# Altium footprint library PCB_power_unit.PcbLib: 18 footprints (part 2 of 2)
Each footprint in its own frame and in the unit in brackets; x right, y up, seen from the top. Pads: shape width x height; smd on the part's side, far side on the other; paste and mask are expansions set on the pad; w line width, h text height; cw(c..) or ccw(c..) is an arc to the next point about the centre after c.
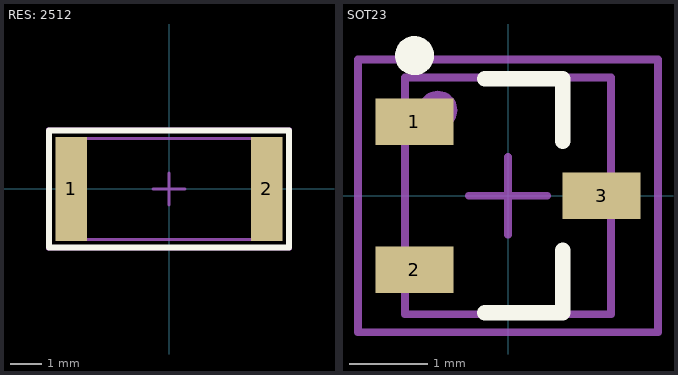
[diagram p1: the footprints below, top view; thin cyan lines are the x and y axes]

## RES: 2512 [mm]
height 0.55
pads (2):
  rect 1x3.3 smd: 1(-3.1,0) 2(3.1,0)
Top Overlay:
  lines w0.2: -3.8,-1.85 -3.8,1.85 3.8,1.85 3.8,-1.85 -3.8,-1.85
Mechanical 1:
  lines w0.1: -3.175,-1.6 -3.175,1.6 3.175,1.6 3.175,-1.6 -3.175,-1.6
Mechanical 15:
  lines w0.1: -0.5,0 0.5,0 ; 0,-0.5 0,0.5 ; -3.85,-1.9 3.85,-1.9 3.85,1.9 -3.85,1.9 -3.85,-1.9
3D body "chip_2512_r.STEP": height 0.52, standoff -0.04, extent -3.175,-1.6 3.175,1.6

## SOT23 [mm]
height 1.1
pads (4):
  rect 1x0.6 smd: 1(-1.2,0.95) 2(-1.2,-0.95) 3(1.2,0)
  round 0.5 on Mech1: ""(-0.9,1.1)
Top Overlay:
  circle w0.25: c-1.2,1.8 r0.125
  lines w0.2: -0.3,-1.5 0.7,-1.5 0.7,-0.7 ; -0.3,1.5 0.7,1.5 0.7,0.7
Mechanical 1:
  lines w0.1: -1.32,-1.52 1.32,-1.52 1.32,1.52 -1.32,1.52 -1.32,-1.52
Mechanical 15:
  lines w0.1: -0.5,0 0.5,0 ; 0,-0.5 0,0.5 ; -1.925,-1.75 -1.925,1.75 1.925,1.75 1.925,-1.75 -1.925,-1.75
3D body "SOT95P237X112-3N.step": height 1.12, standoff 0, extent -1.32,-1.52 1.32,1.52